# EAGLE library part NRF24AP2 (library 0SBLib)
Single-chip ANT ultra-low power wireless network solution
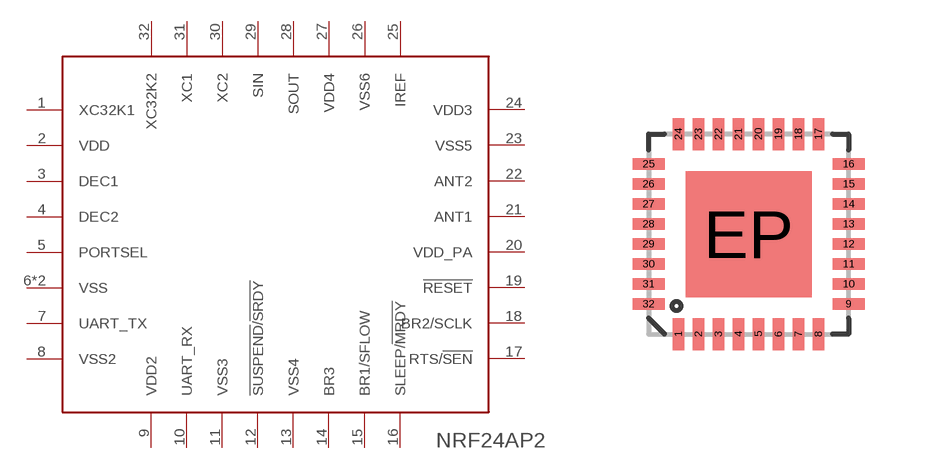
[diagram p39: symbol with the pads of QFN-32; footprint QFN-32]

Designator prefix -

## NRF24AP2  [QFN-32]
1  XC32K1
2  VDD
3  DEC1
4  DEC2
5  PORTSEL
6  VSS
7  UART_TX
8  VSS2
9  VDD2
10  UART_RX
11  VSS3
12  !SUSPEND!/!SRDY!
13  VSS4
14  BR3
15  BR1/SFLOW
16  SLEEP/!MRDY
17  RTS/!SEN
18  BR2/SCLK
19  !RESET
20  VDD_PA
21  ANT1
22  ANT2
23  VSS5
24  VDD3
25  IREF
26  VSS6
27  VDD4
28  SOUT
29  SIN
30  XC2
31  XC1
32  XC32K2
EP  VSS

## Footprint QFN-32 (pad centres in mm)
QFN 32-Pin package w/ Thermal Pad ***Unproven*** Applicable Parts: TLC5940
smd 0.285 x 0.8: 1 -1.75,-2.5; 2 -1.25,-2.5; 3 -0.75,-2.5; 4 -0.25,-2.5; 5 0.25,-2.5; 6 0.75,-2.5; 7 1.25,-2.5; 8 1.75,-2.5; 17 1.75,2.5; 18 1.25,2.5; 19 0.75,2.5; 20 0.25,2.5; 21 -0.25,2.5; 22 -0.75,2.5; 23 -1.25,2.5; 24 -1.75,2.5
smd 0.8 x 0.285: 9 2.5,-1.75; 10 2.5,-1.25; 11 2.5,-0.75; 12 2.5,-0.25; 13 2.5,0.25; 14 2.5,0.75; 15 2.5,1.25; 16 2.5,1.75; 25 -2.5,1.75; 26 -2.5,1.25; 27 -2.5,0.75; 28 -2.5,0.25; 29 -2.5,-0.25; 30 -2.5,-0.75; 31 -2.5,-1.25; 32 -2.5,-1.75
smd 3.15 x 3.15: EP 0,0